# Altium schematic symbol library CR0805-FX-2491ELF.SchLib: 1 symbol
Pins are listed as number, name and electrical type; pins without a type are passive.

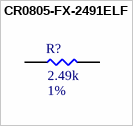
[diagram p0: symbol CR0805-FX-2491ELF]

## CR0805-FX-2491ELF
designator R?  Resistance: 2.49k  Tolerance: 1%  (hidden comment: CR0805-FX-2491ELF)
RES SMD 2.49K OHM 1% 1/8W 0805; MFR: Bourns Inc.; PN: CR0805-FX-2491ELF; Footprint: RES0805; Package: 0805; ComponentLink1Description: Datasheet; ComponentLink1URL: https://www.bourns.com/docs/product-datasheets/CRxxxxx.pdf; Power Rating: 1/8W; Supplier 1: Digi-Key; Supplier Part Number 1: CR0805-FX-2491ELF-ND
footprint RES0805 (Generic 0805 PCB Footprint)
pins: 1, 2